# EAGLE library part WE-SPEEDY_DESIGN_SERVICE_8PIN (library WE-SPEEDY_DESIGN_SERVICE_8PIN)
WE-Speedy Design Service, 8 Pin - Any application that fits package style - Switch Mode Power: Flyback, Forward, Push-Pull, Coupled Inductor -- Telecom Applications: xDSL, POTS Splitter Inductors
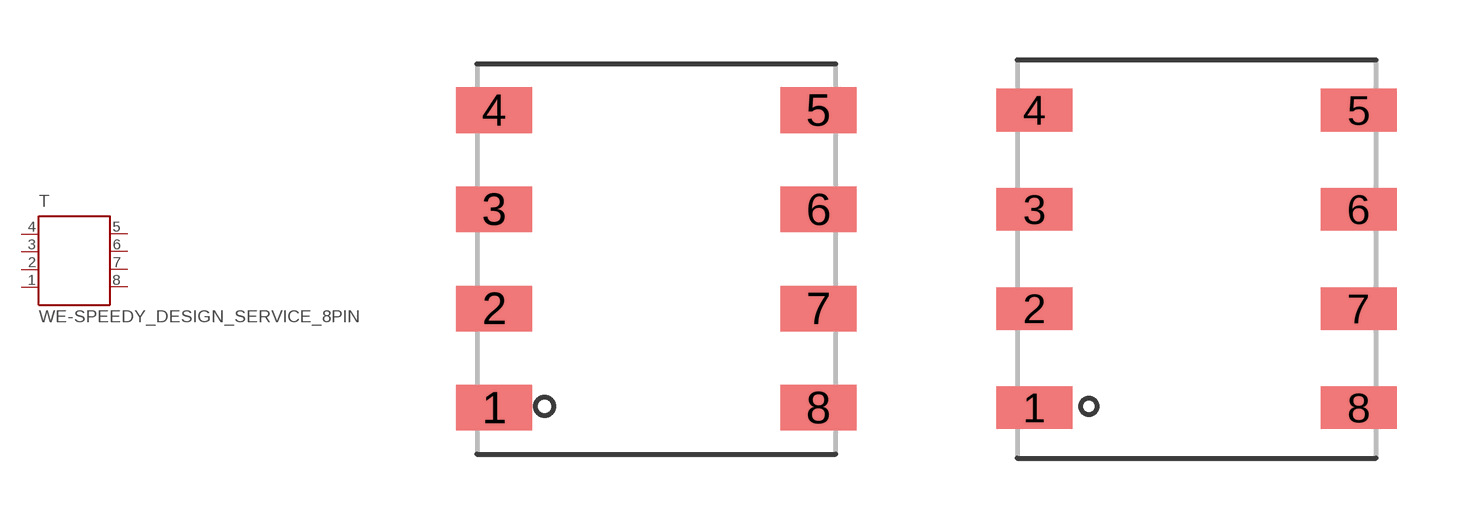
[diagram p0: symbol with the pads of WE_EP7_SMD_8PIN; footprints WE_EP7_SMD_8PIN, WE_EPX7_SMD_8PIN]

Designator prefix T

## WE-SPEEDY_DESIGN_SERVICE_8PIN_EP7_SMD  [WE_EP7_SMD_8PIN]
1  1  pas
2  2  pas
3  3  pas
4  4  pas
5  5  pas
6  6  pas
7  7  pas
8  8  pas

## WE-SPEEDY_DESIGN_SERVICE_8PIN_EPX7_SMD  [WE_EPX7_SMD_8PIN]
Pads as for WE_EP7_SMD_8PIN

## WE-SPEEDY_DESIGN_SERVICE_8PIN-750311342_EP10_SMD (MPN: 750311342; OC_FARNELL: 1895749; OC_NEWARK: 47T5827; PACKAGE: EP10-SMD; SUPPLIER: Würth Elektronik eiSos GmbH)  [WE_EP10_SMD_8PIN]
Pads as for WE_EP7_SMD_8PIN

## WE-SPEEDY_DESIGN_SERVICE_8PIN_EPX9_SMD  [WE_EPX9_SMD_8PIN]
Pads as for WE_EP7_SMD_8PIN

## WE-SPEEDY_DESIGN_SERVICE_8PIN_ER9.5_SMD  [WE_ER9.5_SMD_8PIN]
Pads as for WE_EP7_SMD_8PIN

## WE-SPEEDY_DESIGN_SERVICE_8PIN_EE13/5/6_THT  [WE_EE13/5/6_HORIZONTAL_8PIN]
1  4  pas
2  3  pas
3  2  pas
4  1  pas
5  8  pas
6  7  pas
7  6  pas
8  5  pas

## WE-SPEEDY_DESIGN_SERVICE_8PIN_EE13/7/5_THT  [WE_EE13/7/4_HORIZONTAL_8PIN]
Pads as for WE_EE13/5/6_HORIZONTAL_8PIN

## WE-SPEEDY_DESIGN_SERVICE_8PIN_EE16/8/5_THT  [WE_EE16/8/5_THT_HORIZONTAL_8PIN]
Pads as for WE_EE13/5/6_HORIZONTAL_8PIN

## WE-SPEEDY_DESIGN_SERVICE_8PIN_EE25/13/11_THT  [WE_EE25/13/11_THT_VERTICAL_8PIN]
Pads as for WE_EE13/5/6_HORIZONTAL_8PIN

## Footprint WE_EP7_SMD_8PIN (pad centres in mm)
Transformer, EP7 SMD 8 Pin
smd 1.91 x 1.143: 1 -4.065,-3.735; 2 -4.065,-1.245; 3 -4.065,1.245; 4 -4.065,3.735; 5 4.065,3.735; 6 4.065,1.245; 7 4.065,-1.245; 8 4.065,-3.735

## Footprint WE_EPX7_SMD_8PIN (pad centres in mm)
Transformer, EPX7 SMD 8 Pin
smd 1.91 x 1.07: 1 -4.065,-3.735; 2 -4.065,-1.245; 3 -4.065,1.245; 4 -4.065,3.735; 5 4.065,3.735; 6 4.065,1.245; 7 4.065,-1.245; 8 4.065,-3.735

## Footprint WE_EP10_SMD_8PIN (pad centres in mm)
Transformer, EP10 SMD 8 Pin
smd 2.08 x 1.07: 1 -6.78,-3.735; 2 -6.78,-1.245; 3 -6.78,1.245; 4 -6.78,3.735; 5 6.78,3.735; 6 6.78,1.245; 7 6.78,-1.245; 8 6.78,-3.735

## Footprint WE_EPX9_SMD_8PIN (pad centres in mm)
Transformer, EPX9 SMD 8 Pin
smd 2.44 x 0.97: 1 -4.13,-3; 2 -4.13,-1; 3 -4.13,1; 4 -4.13,3; 5 4.13,3; 6 4.13,1; 7 4.13,-1; 8 4.13,-3

## Footprint WE_ER9.5_SMD_8PIN (pad centres in mm)
Transformer, ER9.5 SMD 8 Pin
smd 1.7 x 1.12: 1 -5.46,3; 2 -5.46,1; 3 -5.46,-1; 4 -5.46,-3; 5 5.46,-3; 6 5.46,-1; 7 5.46,1; 8 5.46,3

## Footprint WE_EE13/5/6_HORIZONTAL_8PIN (pad centres in mm)
Transformer, EE13/5/6 Horizontal 8 Pin
drill 1.19 square: 1 -5.075,5.715
drill 1.19: 2 -5.075,1.905; 3 -5.075,-1.905; 4 -5.075,-5.715; 5 5.075,-5.715; 6 5.075,-1.905; 7 5.075,1.905; 8 5.075,5.715

## Footprint WE_EE13/7/4_HORIZONTAL_8PIN (pad centres in mm)
Transformer, EE13/7/5 THT Horizontal 8 Pin
drill 1.32 square: 1 -5.08,5.715
drill 1.32: 2 -5.08,1.905; 3 -5.08,-1.905; 4 -5.08,-5.715; 5 5.08,-5.715; 6 5.08,-1.905; 7 5.08,1.905; 8 5.08,5.715

## Footprint WE_EE16/8/5_THT_HORIZONTAL_8PIN (pad centres in mm)
Transformer, EE16/8/5 THT Horizontal 8 Pin
drill 1.07 square: 1 -7.7,5.7
drill 1.07: 2 -7.7,1.9; 3 -7.7,-1.9; 4 -7.7,-5.7; 5 7.7,-5.7; 6 7.7,-1.9; 7 7.7,1.9; 8 7.7,5.7

## Footprint WE_EE25/13/11_THT_VERTICAL_8PIN (pad centres in mm)
Transformer, EE25/13/11 THT Vertikal 8 Pin
drill 1.17 square: 1 -8.76,7.5
drill 1.17: 2 -8.76,2.5; 3 -8.76,-2.5; 4 -8.76,-7.5; 5 8.76,-7.5; 6 8.76,-2.5; 7 8.76,2.5; 8 8.76,7.5